# Altium integrated library 74651173_Altium_WP-THRSH_rev19a.IntLib: 10 symbols
Pins are listed as number, name and electrical type; pins without a type are passive.

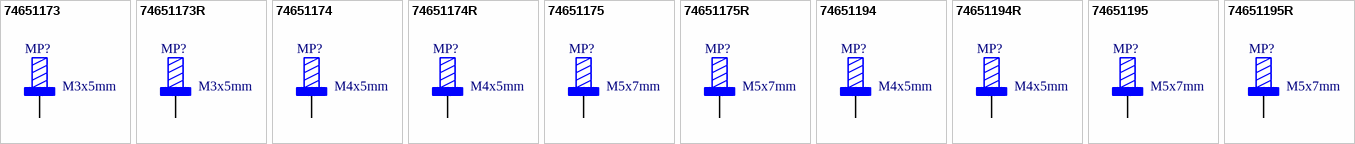
[diagram p0: symbols 74651173 to 74651195R]

## 74651173
designator MP?, comment M3x5mm
WP-THRSH REDCUBE THR with external thread, 7x7mm, M3x5mm, 4 pins, 50A; Part Number: 74651173; Pin Number: 4; Thread: M3; Surface: Tin; Thread Length: 5mm; ComponentLink1Description: Manufacturer; ComponentLink1URL: http://www.we-online.de; ComponentLink2Description: Datasheet; ComponentLink2URL: https://katalog.we-online.com/em/datasheet/74651173.pdf; Operating Temperature: -55 to +150degC; Height: 8.5mm; Material: Brass; Packaging: Bulk; Mounting Technology: SMT; Rated Current: 50A; Publisher: Wurth Elektronik; Published Date: September 2019; Size: 7x7mm
footprint 74651173
pins: 1

## 74651173R
designator MP?, comment M3x5mm
WP-THRSH REDCUBE THR with external thread, 7x7mm, M3x5mm, 4 pins, 50A; Part Number: 74651173R; Pin Number: 4; Thread: M3; Surface: Tin; Thread Length: 5mm; ComponentLink1Description: Manufacturer; ComponentLink1URL: http://www.we-online.de; ComponentLink2Description: Datasheet; ComponentLink2URL: https://katalog.we-online.com/em/datasheet/74651173R.pdf; Operating Temperature: -55 to +150degC; Height: 8.5mm; Material: Brass; Packaging: Tape and Reel; Mounting Technology: SMT; Rated Current: 50A; Publisher: Wurth Elektronik; Published Date: September 2019; Size: 7x7mm
footprint 74651173
pins: 1

## 74651174
designator MP?, comment M4x5mm
WP-THRSH REDCUBE THR with external thread, 7x7mm, M4x5mm, 4 pins, 50A; Part Number: 74651174; Pin Number: 4; Thread: M4; Surface: Tin; Thread Length: 5mm; ComponentLink1Description: Manufacturer; ComponentLink1URL: http://www.we-online.de; ComponentLink2Description: Datasheet; ComponentLink2URL: https://katalog.we-online.com/em/datasheet/74651174.pdf; Operating Temperature: -55 to +150degC; Height: 8.5mm; Material: Brass; Packaging: Bulk; Mounting Technology: SMT; Rated Current: 50A; Publisher: Wurth Elektronik; Published Date: September 2019; Size: 7x7mm
footprint 74651174
pins: 1

## 74651174R
designator MP?, comment M4x5mm
WP-THRSH REDCUBE THR with external thread, 7x7mm, M4x5mm, 4 pins, 50A; Part Number: 74651174R; Pin Number: 4; Thread: M4; Surface: Tin; Thread Length: 5mm; ComponentLink1Description: Manufacturer; ComponentLink1URL: http://www.we-online.de; ComponentLink2Description: Datasheet; ComponentLink2URL: https://katalog.we-online.com/em/datasheet/74651174R.pdf; Operating Temperature: -55 to +150degC; Height: 8.5mm; Material: Brass; Packaging: Tape and Reel; Mounting Technology: SMT; Rated Current: 50A; Publisher: Wurth Elektronik; Published Date: September 2019; Size: 7x7mm
footprint 74651174
pins: 1

## 74651175
designator MP?, comment M5x7mm
WP-THRSH REDCUBE THR with external thread, 7x7mm, M5x7mm, 4 pins, 50A; Part Number: 74651175; Pin Number: 4; Thread: M5; Surface: Tin; Thread Length: 7mm; ComponentLink1Description: Manufacturer; ComponentLink1URL: http://www.we-online.de; ComponentLink2Description: Datasheet; ComponentLink2URL: https://katalog.we-online.com/em/datasheet/74651175.pdf; Operating Temperature: -55 to +150degC; Height: 10.5mm; Material: Brass; Packaging: Bulk; Mounting Technology: SMT; Rated Current: 50A; Publisher: Wurth Elektronik; Published Date: September 2019; Size: 7x7mm
footprint 74651175
pins: 1

## 74651175R
designator MP?, comment M5x7mm
WP-THRSH REDCUBE THR with external thread, 7x7mm, M5x7mm, 4 pins, 50A; Part Number: 74651175R; Pin Number: 4; Thread: M5; Surface: Tin; Thread Length: 7mm; ComponentLink1Description: Manufacturer; ComponentLink1URL: http://www.we-online.de; ComponentLink2Description: Datasheet; ComponentLink2URL: https://katalog.we-online.com/em/datasheet/74651175R.pdf; Operating Temperature: -55 to +150degC; Height: 10.5mm; Material: Brass; Packaging: Tape and Reel; Mounting Technology: SMT; Rated Current: 50A; Publisher: Wurth Elektronik; Published Date: September 2019; Size: 7x7mm
footprint 74651175
pins: 1

## 74651194
designator MP?, comment M4x5mm
WP-THRSH REDCUBE THR with external thread, 10x10mm, M4x5mm, 9 pins, 85A; Part Number: 74651194; Pin Number: 9; Thread: M4; Surface: Tin; Thread Length: 5mm; ComponentLink1Description: Manufacturer; ComponentLink1URL: http://www.we-online.de; ComponentLink2Description: Datasheet; ComponentLink2URL: https://katalog.we-online.com/em/datasheet/74651194.pdf; Operating Temperature: -55 to +150degC; Height: 8.5mm; Material: Brass; Packaging: Bulk; Mounting Technology: SMT; Rated Current: 85A; Publisher: Wurth Elektronik; Published Date: September 2019; Size: 10x10mm
footprint 74651194
pins: 1

## 74651194R
designator MP?, comment M4x5mm
WP-THRSH REDCUBE THR with external thread, 10x10mm, M4x5mm, 9 pins, 85A; Part Number: 74651194R; Pin Number: 9; Thread: M4; Surface: Tin; Thread Length: 5mm; ComponentLink1Description: Manufacturer; ComponentLink1URL: http://www.we-online.de; ComponentLink2Description: Datasheet; ComponentLink2URL: https://katalog.we-online.com/em/datasheet/74651194R.pdf; Operating Temperature: -55 to +150degC; Height: 8.5mm; Material: Brass; Packaging: Tape and Reel; Mounting Technology: SMT; Rated Current: 85A; Publisher: Wurth Elektronik; Published Date: September 2019; Size: 10x10mm
footprint 74651194
pins: 1

## 74651195
designator MP?, comment M5x7mm
WP-THRSH REDCUBE THR with external thread, 10x10mm, M5x7mm, 9 pins, 85A; Part Number: 74651195; Pin Number: 9; Thread: M5; Surface: Tin; Thread Length: 7mm; ComponentLink1Description: Manufacturer; ComponentLink1URL: http://www.we-online.de; ComponentLink2Description: Datasheet; ComponentLink2URL: https://katalog.we-online.com/em/datasheet/74651195.pdf; Operating Temperature: -55 to +150degC; Height: 10.5mm; Material: Brass; Packaging: Bulk; Mounting Technology: SMT; Rated Current: 85A; Publisher: Wurth Elektronik; Published Date: September 2019; Size: 10x10mm
footprint 74651195
pins: 1

## 74651195R
designator MP?, comment M5x7mm
WP-THRSH REDCUBE THR with external thread, 10x10mm, M5x7mm, 9 pins, 85A; Part Number: 74651195R; Pin Number: 9; Thread: M5; Surface: Tin; Thread Length: 7mm; ComponentLink1Description: Manufacturer; ComponentLink1URL: http://www.we-online.de; ComponentLink2Description: Datasheet; ComponentLink2URL: https://katalog.we-online.com/em/datasheet/74651195R.pdf; Operating Temperature: -55 to +150degC; Height: 10.5mm; Material: Brass; Packaging: Tape and Reel; Mounting Technology: SMT; Rated Current: 85A; Publisher: Wurth Elektronik; Published Date: September 2019; Size: 10x10mm
footprint 74651195
pins: 1